# Altium footprint library motionDetectorPCBLib.PcbLib: 13 footprints
Each footprint in its own frame and in the unit in brackets; x right, y up, seen from the top. Pads: shape width x height; smd on the part's side, far side on the other; paste and mask are expansions set on the pad; w line width, h text height; cw(c..) or ccw(c..) is an arc to the next point about the centre after c.
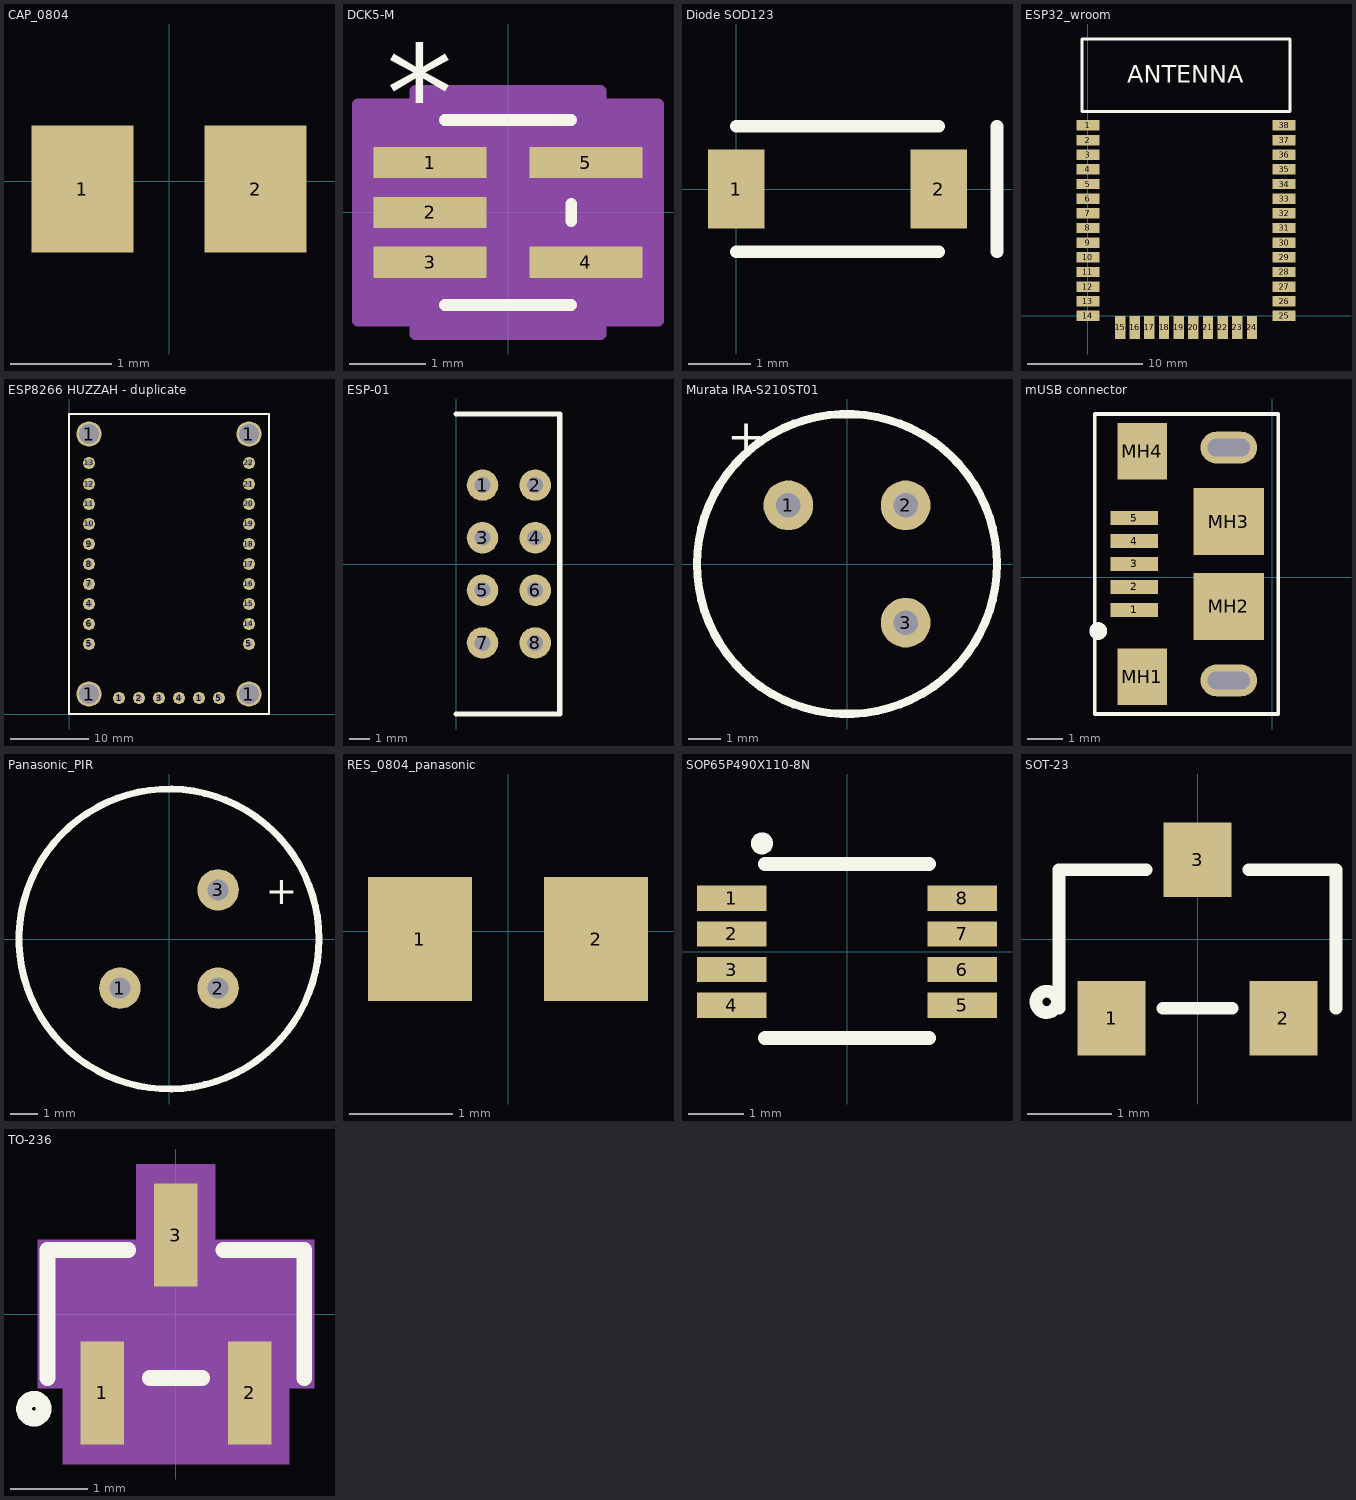
[diagram p0: the footprints below, top view; thin cyan lines are the x and y axes]

## CAP_0804 [mm]
height 1.25
pads (2):
  rect 1.006x1.25 smd: 1(-0.853,-0.075) 2(0.853,-0.075)

## DCK5-M [mil]
pads (5):
  rect 58x16 smd paste+0 mask+0: 1(-40,25.59) 2(-40,0) 3(-40,-25.59) 4(40,-25.59) 5(40,25.59)
Top Overlay:
  lines w6: -32.5,-47.5 32.5,-47.5 ; -32.5,47.5 32.5,47.5 ; 32.5,-4.49 32.5,4.49
  text "*" at -62.5,36.59 h50
Mechanical 13:
  lines w0: -12,42.5 ccw(c0,42.5) 12,42.5
  lines w1: -47,-31.59 -47,-19.59 -27.5,-19.59 -27.5,-31.59 -47,-31.59 ; -47,-6 -47,6 -27.5,6 -27.5,-6 -47,-6 ; -47,19.59 -47,31.59 -27.5,31.59 -27.5,19.59 -47,19.59 ; -27.5,-42.5 27.5,-42.5 27.5,42.5 -27.5,42.5 -27.5,-42.5 ; 27.5,-31.59 27.5,-19.59 47,-19.59 47,-31.59 27.5,-31.59 ; 27.5,19.59 27.5,31.59 47,31.59 47,19.59 27.5,19.59
  text "*" at -30,-1.41 h50
Mechanical 15:
  region: 47.5,-62.5 -47.5,-62.5 -47.5,-55.59 -77,-55.59 -77,55.59 -47.5,55.59 -47.5,62.5 47.5,62.5 47.5,55.59 77,55.59 77,-55.59 47.5,-55.59
  lines w6: -77,-55.59 -47.5,-55.59 -47.5,-62.5 47.5,-62.5 47.5,-55.59 77,-55.59 77,55.59 47.5,55.59 47.5,62.5 -47.5,62.5 -47.5,55.59 -77,55.59 -77,-55.59
3D body: height 10, standoff 0, extent 0,0 10,10

## Diode SOD123 [mil]
height 53.15
pads (2):
  rect 36x50 smd: 1(0,0) 2(129,0)
Top Overlay:
  lines w8: 0,-40 129,-40 ; 0,40 129,40 ; 166,-40 166,40

## ESP32_wroom [mm]
height 1.524
pads (38):
  rect 2x0.9 smd: 1(0,16.51) 2(0,15.24) 3(0,13.97) 4(0,12.7) 5(0,11.43) 6(0,10.16) 7(0,8.89) 8(0,7.62) 9(0,6.35) 10(0,5.08) 11(0,3.81) 12(0,2.54) 13(0,1.27) 14(0,0) 25(17,0) 26(17,1.27) 27(17,2.54) 28(17,3.81) 29(17,5.08) 30(17,6.35) 31(17,7.62) 32(17,8.89) 33(17,10.16) 34(17,11.43) 35(17,12.7) 36(17,13.97) 37(17,15.24) 38(17,16.51)
  rect 0.9x2 smd: 15(2.785,-1) 16(4.055,-1) 17(5.325,-1) 18(6.595,-1) 19(7.865,-1) 20(9.135,-1) 21(10.405,-1) 22(11.675,-1) 23(12.945,-1) 24(14.215,-1)
Top Overlay:
  lines w0.254: 17,24 17.5,24 ; 17.5,24 17.5,17.7 -0.5,17.7 -0.5,24 17.5,24
  text "ANTENNA" at 3.425,20.2 h1.52

## ESP8266 HUZZAH - duplicate [mil]
pads (30):
  round 125.98 hole 98.43: 1(100,100) 1(100,1400) 1(900,100) 1(900,1400)
  round 60 hole 30: 1(250,80) 1(650,80) 2(350,80) 3(450,80) 4(100,550) 4(550,80) 5(100,350) 5(750,80) 5(900,350) 6(100,450) 7(100,650) 8(100,750) 9(100,850) 10(100,950) 11(100,1050) 12(100,1150) 13(100,1255) 14(900,450) 15(900,550) 16(900,650) 17(900,750) 18(900,850) 19(900,950) 20(900,1050) 21(900,1150) 22(900,1255)
Top Overlay:
  lines w10: 0,0 0,1500 1000,1500 1000,0 0,0

## ESP-01 [mil]
pads (8):
  round 60 hole 30: 1(50,150) 2(150,150) 3(50,50) 4(150,50) 5(50,-50) 6(150,-50) 7(50,-150) 8(150,-150)
Top Overlay:
  lines w10: 0,-285 196.85,-285 196.85,285 0,285

## Murata IRA-S210ST01 [mil]
height 185.04
pads (3):
  round 60 hole 30: 1(-70.87,70.87) 2(70.87,70.87) 3(70.87,-70.87)
Top Overlay:
  circle w10: c0,0 r181.1
  text "+" at -144.69,134.84 h40

## mUSB connector [mm] "Connector; USB Mini-B, Sinking Type, SM; 5 Position; Right Angle"
height 0.35
pads (11):
  rect 1.35x0.4 smd: 1(-3.9,-0.925) 2(-3.9,-0.275) 3(-3.9,0.375) 4(-3.9,1.025) 5(-3.9,1.676)
  rect 1.4x1.6 smd: MH1(-3.675,-2.825) MH4(-3.675,3.575)
  rect 2x1.9 smd: MH2(-1.225,-0.825) MH3(-1.225,1.575)
  oval 1.6x0.9 hole 0.5 slot 1.2 at 0 deg: ""(-1.225,-2.925) ""(-1.225,3.675)
Top Overlay:
  circle w0.25: c-4.925,-1.525 r0.125
  lines w0.1: -5.025,-3.875 -5.025,4.625 0.175,4.625 0.175,-3.875 -5.025,-3.875

## Panasonic_PIR [mil]
pads (3):
  round 60 hole 30: 1(-70.87,-70.87) 2(70.87,-70.87) 3(70.87,70.87)
Top Overlay:
  circle w10: c0,0 r216.54
  text "+" at 140,50 h40

## RES_0804_panasonic [mm]
pads (2):
  rect 1.006x1.2 smd: 1(-0.853,-0.075) 2(0.853,-0.075)

## SOP65P490X110-8N [mm]
pads (8):
  rect 1.27x0.46 smd: 1(-2.1,0.975) 2(-2.1,0.325) 3(-2.1,-0.325) 4(-2.1,-0.975) 5(2.1,-0.975) 6(2.1,-0.325) 7(2.1,0.325) 8(2.1,0.975)
Top Overlay:
  circle w0.203: c-1.55,1.975 r0.1
  lines w0.254: -1.5,-1.575 1.5,-1.575 ; -1.5,1.6 1.5,1.6

## SOT-23 [mil]
pads (3):
  rect 32x35 smd paste+0: 1(-40.35,-37.2) 2(40.35,-37.2) 3(0,37.2)
Top Overlay:
  circle w6: c-70.87,-29.53 r5
  lines w6: -65.04,-32.56 -65.04,32.56 -24.14,32.56 ; -16.21,-32.56 16.21,-32.56 ; 24.14,32.56 65.04,32.56 65.04,-32.56

## TO-236 [mil]
pads (3):
  rect 22x52 smd paste+0 mask+0: 1(-37.4,-40) 2(37.4,-40) 3(0,40)
Top Overlay:
  circle w8: c-72,-48 r5
  lines w8: -65,-32.5 -65,32.5 -24.1,32.5 ; -13.3,-32.5 13.3,-32.5 ; 24.1,32.5 65,32.5 65,-32.5
Mechanical 15:
  region: 60,-27.5 -60,-27.5 -60,27.5 60,27.5
  region: -70,-37.5 -70,37.5 -20,37.5 -20,76 20,76 20,37.5 70,37.5 70,-37.5 57.4,-37.5 57.4,-76 -57.4,-76 -57.4,-37.5